# Altium schematic symbol library Conn_JST_S5B-PH-K-S_LF_SN_eec.SchLib: 1 symbol
Pins are listed as number, name and electrical type; pins without a type are passive.

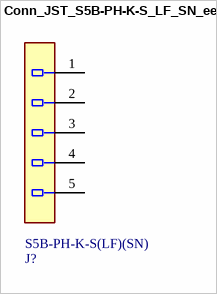
[diagram p0: symbol Conn_JST_S5B-PH-K-S_LF_SN_eec]

## Conn_JST_S5B-PH-K-S_LF_SN_eec
designator J?  Part Number: S5B-PH-K-S(LF)(SN)
CONN HEADER PH SIDE 5POS 2MM; Manufacturer: JST; helpURL: https://upverter.com/upn/revision/84d3d51c2c74f9f0/; ComponentLink2Description: Datasheet; Temperature: -25°C to +85°C; Package: HDR5; Supplier 2: Mouser; Price: 0.173842983164; Supplier 1: Digi-Key; ComponentLink1URL: https://upverter.com/upn/revision/84d3d51c2c74f9f0/; Supplier Part Number 1: 455-1722-ND; ComponentLink1Description: Upverter; ComponentLink2URL: https://upverter.com/datasheet/3218291e14bbaecfcda6cf56362cc5ed31196bc3.pdf; RoHS: TRUE; Temperature Range High: +85°C; Digikey Description: CONN HEADER PH SIDE 5POS 2MM; Digikey Part Number: 455-1722-ND; Lead Free: yes; Temperature Range Low: -25°C; Mounting Type: Through Hole, Right Angle
footprint JST_S5B-PH-K-S_LF_SN_0
pins: 1, 2, 3, 4, 5